# EAGLE library part 74HC02PW_QUAD_NOR (library myLib)
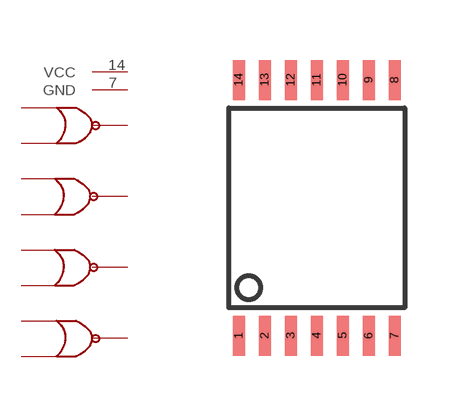
[diagram p3: symbol with the pads of TSSOP14; footprint TSSOP14]

Designator prefix -

## 74HC02PW_QUAD_NOR  [TSSOP14]
1  Y1
2  A1
3  B1
4  Y2
5  A2
6  B2
7  GND
8  A3
9  B3
10  Y3
11  A4
12  B4
13  Y4
14  VCC

## Footprint TSSOP14 (pad centres in mm)
smd 0.3 x 1: 1 -1.95,-3.2; 2 -1.3,-3.2; 3 -0.65,-3.2; 4 0,-3.2; 5 0.65,-3.2; 6 1.3,-3.2; 7 1.95,-3.2; 8 1.95,3.2; 9 1.3,3.2; 10 0.65,3.2; 11 0,3.2; 12 -0.65,3.2; 13 -1.3,3.2; 14 -1.95,3.2